# Altium footprint library EPC_2019Q3.pcblib: 22 footprints (part 1 of 2)
Each footprint in its own frame and in the unit in brackets; x right, y up, seen from the top. Pads: shape width x height; smd on the part's side, far side on the other; paste and mask are expansions set on the pad; w line width, h text height; cw(c..) or ccw(c..) is an arc to the next point about the centre after c.
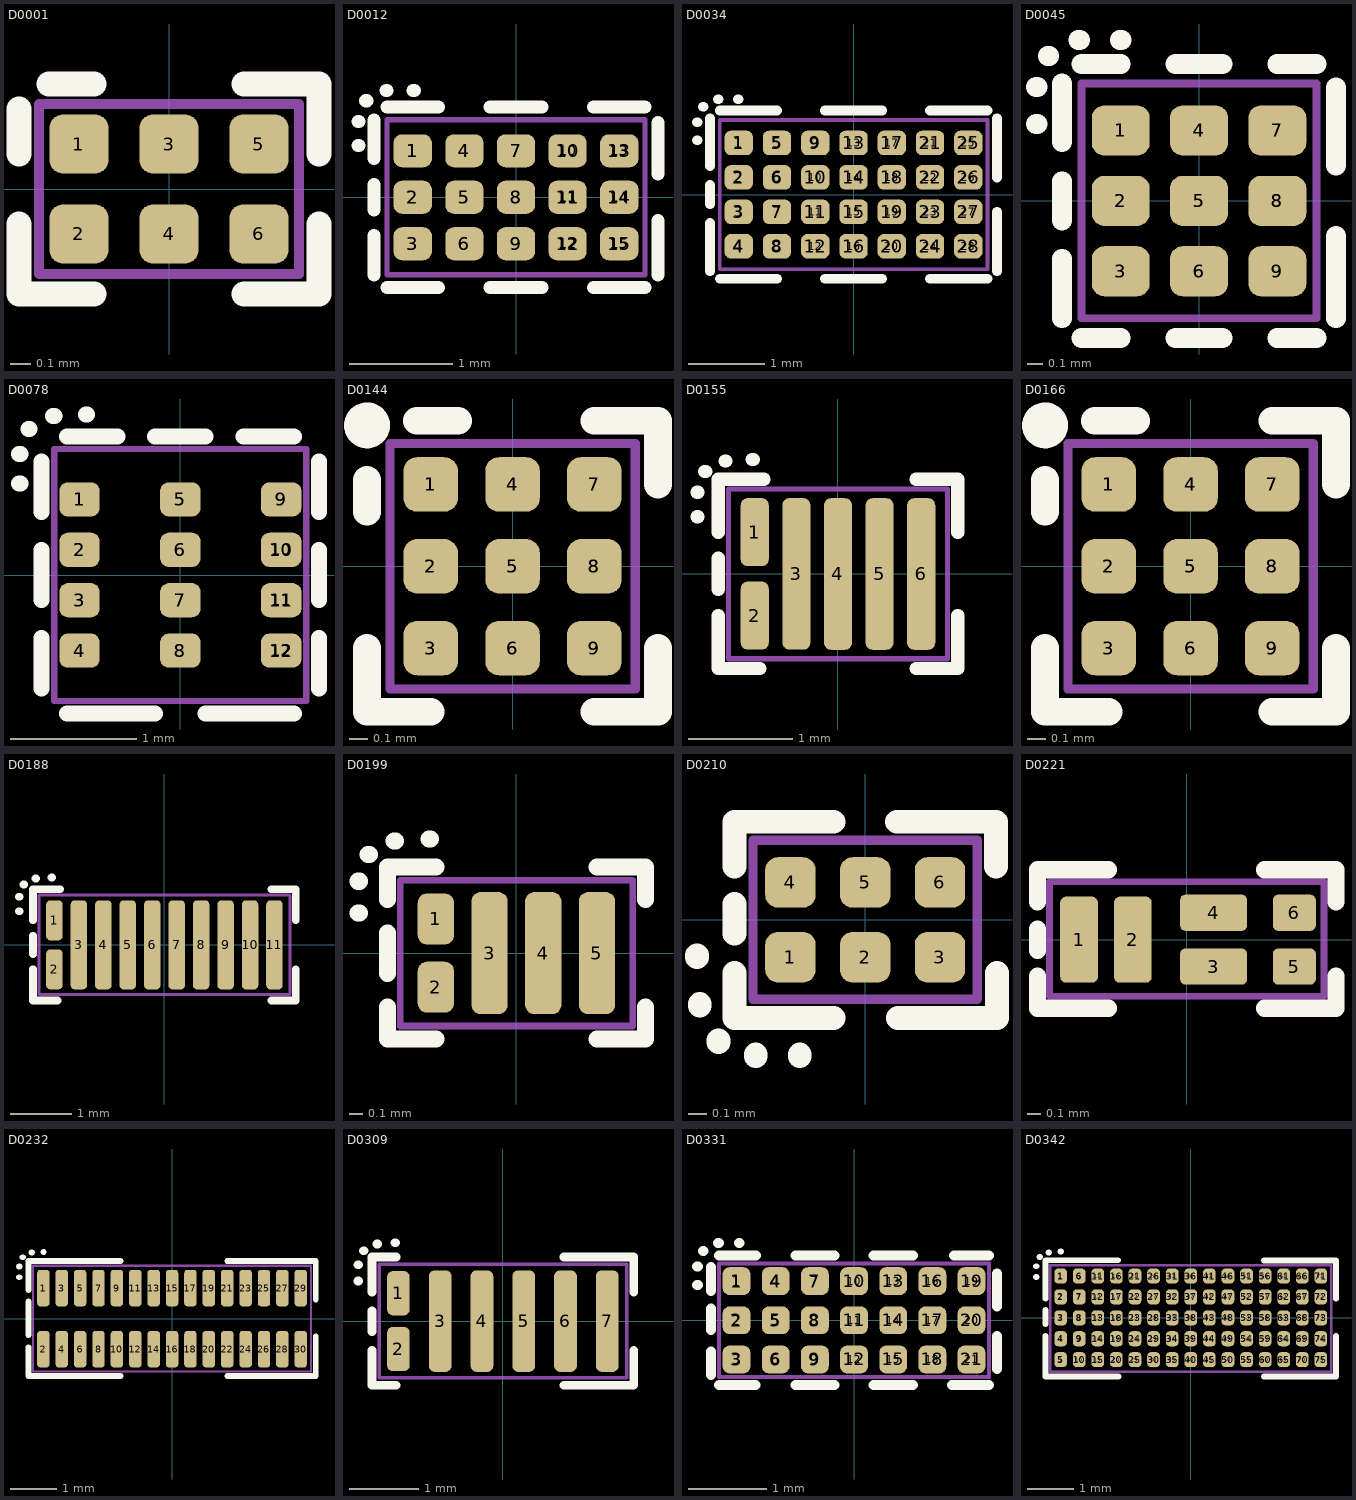
[diagram p0: the footprints below, top view; thin cyan lines are the x and y axes]

## D0001 [mm] "BGA 6 pin, 1.3mm by 0.85mm"
height 0.8
pads (12):
  rrect45% 0.295x0.295 smd paste-0.035 mask-0.135: 1(-0.45,0.225) 2(-0.45,-0.225) 3(0,0.225) 4(0,-0.225) 5(0.45,0.225) 6(0.45,-0.225)
  round 0.225 on Top Solder paste+0 mask+0: ""(-0.45,-0.225) ""(-0.45,0.225) ""(0,-0.225) ""(0,0.225) ""(0.45,-0.225) ""(0.45,0.225)
Top Overlay:
  lines w0.127: -0.75,-0.175 -0.75,-0.525 -0.375,-0.525 ; -0.75,0.175 -0.75,0.4 ; -0.6,0.525 -0.375,0.525 ; 0.375,-0.525 0.75,-0.525 0.75,-0.175 ; 0.375,0.525 0.75,0.525 0.75,0.175
Mechanical 13:
  lines w0.05: -0.65,-0.425 -0.65,0.425 0.65,0.425 0.65,-0.425 -0.65,-0.425
3D body: height 0.78, standoff 0.1, extent -0.65,-0.425 0.65,0.425
3D body: height 0.15, standoff -0.05, extent 0.353,0.127 0.547,0.323
3D body: height 0.15, standoff -0.05, extent 0.353,-0.323 0.547,-0.127
3D body: height 0.15, standoff -0.05, extent -0.097,-0.323 0.097,-0.127
3D body: height 0.15, standoff -0.05, extent -0.547,-0.323 -0.353,-0.127
3D body: height 0.15, standoff -0.05, extent -0.097,0.127 0.097,0.323
3D body: height 0.1, standoff 0.04, extent 0.35,-0.325 0.549,-0.125
3D body: height 0.1, standoff 0.04, extent -0.1,-0.325 0.099,-0.125
3D body: height 0.1, standoff 0.04, extent -0.55,-0.325 -0.351,-0.125
3D body: height 0.1, standoff 0.04, extent 0.35,0.125 0.549,0.325
3D body: height 0.1, standoff 0.04, extent -0.1,0.125 0.099,0.325
3D body: height 0.1, standoff 0.04, extent -0.55,0.125 -0.351,0.325
3D body: height 0.15, standoff -0.05, extent -0.547,0.127 -0.353,0.323
3D body: height 0.8, standoff 0.15, extent -0.599,0.075 -0.3,0.375

## D0012 [mm] "Gen 5 100 V"
height 0.8
pads (30):
  round 0.23 on Top Solder paste+0 mask+0: 1(-1,0.45) 2(-1,0) 3(-1,-0.45) 4(-0.5,0.45) 5(-0.5,0) 6(-0.5,-0.45) 7(0,0.45) 8(0,0) 9(0,-0.45) 10(0.5,0.45) 11(0.5,0) 12(0.5,-0.45) 13(1,0.45) 14(1,0) 15(1,-0.45)
  rrect50% 0.37x0.32 smd paste-0.035 mask-0.2: 1(-1,0.45) 2(-1,0) 3(-1,-0.45) 4(-0.5,0.45) 5(-0.5,0) 6(-0.5,-0.45) 7(0,0.45) 8(0,0) 9(0,-0.45) 10(0.5,0.45) 11(0.5,0) 12(0.5,-0.45) 13(1,0.45) 14(1,0) 15(1,-0.45)
Top Overlay:
  lines w0.127: -1.53,0.5 -1.52,0.5 ; -1.53,0.735 -1.52,0.735 ; -1.455,0.935 -1.445,0.935 ; -1.375,-0.75 -1.375,-0.37 ; -1.375,-0.125 -1.375,0.125 ; -1.375,0.375 -1.375,0.75 ; -1.26,1.035 -1.25,1.035 ; -1.25,-0.875 -0.75,-0.875 ; -1.25,0.875 -0.75,0.875 ; -0.995,1.035 -0.985,1.035 ; -0.25,-0.875 0.25,-0.875 ; -0.25,0.875 0.25,0.875 ; 0.75,-0.875 1.25,-0.875 ; 0.75,0.875 1.25,0.875 ; 1.375,-0.75 1.375,-0.225 ; 1.375,0.225 1.375,0.725
Mechanical 13:
  lines w0.05: -1.25,-0.75 1.25,-0.75 1.25,0.75 -1.25,0.75 -1.25,-0.75
3D body: height 0.88, standoff 0.2, extent -1.25,-0.75 1.25,0.75
3D body: height 0.95, standoff 0.15, extent -1.151,0.301 -0.852,0.601

## D0034 [mm] "Gen 5 100 V"
height 0.8
pads (56):
  round 0.23 on Top Solder paste+0 mask+0: 1(-1.5,0.675) 2(-1.5,0.225) 3(-1.5,-0.225) 4(-1.5,-0.675) 5(-1,0.675) 6(-1,0.225) 7(-1,-0.225) 8(-1,-0.675) 9(-0.5,0.675) 10(-0.5,0.225) 11(-0.5,-0.225) 12(-0.5,-0.675) 13(0,0.675) 14(0,0.225) 15(0,-0.225) 16(0,-0.675) 17(0.5,0.675) 18(0.5,0.225) 19(0.5,-0.225) 20(0.5,-0.675) 21(1,0.675) 22(1,0.225) 23(1,-0.225) 24(1,-0.675) 25(1.5,0.675) 26(1.5,0.225) 27(1.5,-0.225) 28(1.5,-0.675)
  rrect50% 0.37x0.32 smd paste-0.035 mask-0.2: 1(-1.5,0.675) 2(-1.5,0.225) 3(-1.5,-0.225) 4(-1.5,-0.675) 5(-1,0.675) 6(-1,0.225) 7(-1,-0.225) 8(-1,-0.675) 9(-0.5,0.675) 10(-0.5,0.225) 11(-0.5,-0.225) 12(-0.5,-0.675) 13(0,0.675) 14(0,0.225) 15(0,-0.225) 16(0,-0.675) 17(0.5,0.675) 18(0.5,0.225) 19(0.5,-0.225) 20(0.5,-0.675) 21(1,0.675) 22(1,0.225) 23(1,-0.225) 24(1,-0.675) 25(1.5,0.675) 26(1.5,0.225) 27(1.5,-0.225) 28(1.5,-0.675)
Top Overlay:
  lines w0.127: -2.046,0.712 -2.036,0.712 ; -2.046,0.947 -2.036,0.947 ; -1.971,1.147 -1.961,1.147 ; -1.875,-1 -1.875,-0.37 ; -1.875,-0.125 -1.875,0.125 ; -1.875,0.375 -1.875,1 ; -1.776,1.247 -1.766,1.247 ; -1.75,-1.1 -1,-1.1 ; -1.75,1.1 -1,1.1 ; -1.511,1.247 -1.501,1.247 ; -0.375,-1.1 0.375,-1.1 ; -0.375,1.1 0.375,1.1 ; 1,-1.1 1.75,-1.1 ; 1,1.1 1.75,1.1 ; 1.875,-1 1.875,-0.225 ; 1.875,0.225 1.875,1
Mechanical 13:
  lines w0.05: -1.75,-0.975 -1.75,0.975 1.75,0.975 1.75,-0.975 -1.75,-0.975
3D body: height 0.88, standoff 0.2, extent -1.753,-0.974 1.751,0.975
3D body: height 0.95, standoff 0.15, extent -1.655,0.53 -1.357,0.829

## D0045 [mm] "Gen 5 100 V"
height 0.8
pads (18):
  round 0.23 on Top Solder paste+0 mask+0: 1(-0.5,0.45) 2(-0.5,0) 3(-0.5,-0.45) 4(0,0.45) 5(0,0) 6(0,-0.45) 7(0.5,0.45) 8(0.5,0) 9(0.5,-0.45)
  rrect50% 0.37x0.32 smd paste-0.035 mask-0.2: 1(-0.5,0.45) 2(-0.5,0) 3(-0.5,-0.45) 4(0,0.45) 5(0,0) 6(0,-0.45) 7(0.5,0.45) 8(0.5,0) 9(0.5,-0.45)
Top Overlay:
  lines w0.127: -1.041,0.491 -1.031,0.491 ; -1.041,0.726 -1.031,0.726 ; -0.966,0.926 -0.956,0.926 ; -0.875,-0.75 -0.875,-0.37 ; -0.875,-0.125 -0.875,0.125 ; -0.875,0.375 -0.875,0.75 ; -0.771,1.026 -0.761,1.026 ; -0.75,-0.875 -0.5,-0.875 ; -0.75,0.875 -0.5,0.875 ; -0.506,1.026 -0.496,1.026 ; -0.15,-0.875 0.15,-0.875 ; -0.15,0.875 0.15,0.875 ; 0.5,-0.875 0.75,-0.875 ; 0.5,0.875 0.75,0.875 ; 0.875,-0.75 0.875,-0.225 ; 0.875,0.225 0.875,0.725
Mechanical 13:
  lines w0.05: -0.75,-0.75 -0.75,0.75 0.75,0.75 0.75,-0.75 -0.75,-0.75
3D body: height 0.88, standoff 0.2, extent -0.748,-0.75 0.749,0.75
3D body: height 0.95, standoff 0.15, extent -0.647,0.3 -0.348,0.6

## D0078 [mm] "350V Gen5"
height 0.6
pads (24):
  rrect50% 0.321x0.271 smd paste-0.023 mask+0: 1(-0.8,0.6) 2(-0.8,0.2) 3(-0.8,-0.2) 4(-0.8,-0.6) 5(0,0.6) 6(0,0.2) 7(0,-0.2) 8(0,-0.6) 9(0.8,0.6) 10(0.8,0.2) 11(0.8,-0.2) 12(0.8,-0.6)
  round 0.2 on Top Solder paste+0 mask+0: 1(-0.8,0.6) 2(-0.8,0.2) 3(-0.8,-0.2) 4(-0.8,-0.6) 5(0,0.6) 6(0,0.2) 7(0,-0.2) 8(0,-0.6) 9(0.8,0.6) 10(0.8,0.2) 11(0.8,-0.2) 12(0.8,-0.6)
Top Overlay:
  lines w0.127: -1.28,0.725 -1.27,0.725 ; -1.28,0.96 -1.27,0.96 ; -1.205,1.16 -1.195,1.16 ; -1.1,-0.9 -1.1,-0.5 ; -1.1,-0.2 -1.1,0.2 ; -1.1,0.5 -1.1,0.9 ; -1.01,1.26 -1,1.26 ; -0.9,-1.1 -0.2,-1.1 ; -0.9,1.1 -0.5,1.1 ; -0.75,1.275 -0.74,1.275 ; -0.2,1.1 0.2,1.1 ; 0.2,-1.1 0.9,-1.1 ; 0.5,1.1 0.9,1.1 ; 1.1,-0.9 1.1,-0.5 ; 1.1,-0.2 1.1,0.2 ; 1.1,0.5 1.1,0.9
Mechanical 13:
  lines w0.05: -1,-1 1,-1 1,1 -1,1 -1,-1
3D body: height 0.78, standoff 0.1, extent -1,-1.005 1,0.975
3D body: height 0.8, standoff 0.15, extent -0.95,0.45 -0.65,0.749

## D0144 [mm]
pads (18):
  rrect50% 0.3x0.3 smd paste-0.025 mask-0.148: 1(-0.45,0.45) 2(-0.45,0) 3(-0.45,-0.45) 4(0,0.45) 5(0,0) 6(0,-0.45) 7(0.45,0.45) 8(0.45,0) 9(0.45,-0.45)
  round 0.2 on Top Solder paste+0 mask+0: 1(-0.45,0.45) 2(-0.45,0) 3(-0.45,-0.45) 4(0,0.45) 5(0,0) 6(0,-0.45) 7(0.45,0.45) 8(0.45,0) 9(0.45,-0.45)
Top Overlay:
  circle w0.152: c-0.8,0.775 r0.05
  lines w0.152: -0.8,-0.45 -0.8,-0.8 -0.45,-0.8 ; -0.8,0.3 -0.8,0.475 ; -0.525,0.8 -0.3,0.8 ; 0.45,-0.8 0.8,-0.8 0.8,-0.45 ; 0.45,0.8 0.8,0.8 0.8,0.45
Mechanical 13:
  lines w0.05: -0.675,-0.675 -0.675,0.675 0.675,0.675 0.675,-0.675 -0.675,-0.675
3D body: height 0.81, standoff 0.17, extent -0.675,-0.675 0.675,0.675
3D body: height 0.85, standoff 0.15, extent -0.599,0.3 -0.3,0.6

## D0155 [mm]
height 0.8
pads (12):
  rrect50% 0.27x0.655 smd paste-0.048 mask-0.275: 1(-0.8,0.401) 2(-0.8,-0.401)
  rrect50% 0.27x1.457 smd paste-0.048 mask-0.275: 3(-0.4,0) 4(0,-0.001) 5(0.4,-0.001) 6(0.8,-0.001)
  oval 0.18x0.56 on Top Solder: ""(-0.8,-0.401) ""(-0.8,0.401)
  oval 0.18x1.362 on Top Solder: ""(-0.4,0) ""(0,0) ""(0.4,0) ""(0.8,0)
Top Overlay:
  lines w0.127: -1.355,0.55 -1.345,0.55 ; -1.355,0.785 -1.345,0.785 ; -1.28,0.985 -1.27,0.985 ; -1.15,-0.4 -1.15,-0.91 -0.75,-0.91 ; -1.15,-0.15 -1.15,0.15 ; -1.15,0.4 -1.15,0.91 -0.71,0.91 ; -1.085,1.085 -1.075,1.085 ; -0.825,1.1 -0.815,1.1 ; 0.751,-0.91 1.151,-0.91 1.151,-0.4 ; 0.751,0.91 1.151,0.91 1.151,0.4
Mechanical 13:
  lines w0.05: -1.052,-0.816 1.054,-0.816 1.054,0.816 -1.052,0.816 -1.052,-0.816
3D body: height 0.85, standoff 0.15, extent -0.949,0.251 -0.65,0.551
3D body: height 0.81, standoff 0.1, extent -1.052,-0.816 1.05,0.816

## D0166 [mm]
height 0.8
pads (18):
  rrect50% 0.3x0.3 smd paste-0.038 mask-0.148: 1(-0.45,0.45) 2(-0.45,0) 3(-0.45,-0.45) 4(0,0.45) 5(0,0) 6(0,-0.45) 7(0.45,0.45) 8(0.45,0) 9(0.45,-0.45)
  rrect33% 0.205x0.205 on Top Solder paste+0 mask+0: 1(-0.45,0.45) 2(-0.45,0) 3(-0.45,-0.45) 4(0,0.45) 5(0,0) 6(0,-0.45) 7(0.45,0.45) 8(0.45,0) 9(0.45,-0.45)
Top Overlay:
  circle w0.152: c-0.8,0.775 r0.05
  lines w0.152: -0.8,-0.45 -0.8,-0.8 -0.45,-0.8 ; -0.8,0.3 -0.8,0.475 ; -0.525,0.8 -0.3,0.8 ; 0.45,-0.8 0.8,-0.8 0.8,-0.45 ; 0.45,0.8 0.8,0.8 0.8,0.45
Mechanical 13:
  lines w0.05: -0.675,-0.675 -0.675,0.675 0.675,0.675 0.675,-0.675 -0.675,-0.675
3D body: height 0.23, standoff -0.05, extent -0.579,0.315 -0.312,0.586
3D body: height 0.16, standoff 0.09, extent -0.587,0.313 -0.312,0.588
3D body: height 0.23, standoff -0.05, extent -0.129,0.315 0.138,0.586
3D body: height 0.16, standoff 0.09, extent -0.137,0.313 0.138,0.588
3D body: height 0.23, standoff -0.05, extent 0.321,0.315 0.588,0.586
3D body: height 0.16, standoff 0.09, extent 0.313,0.313 0.588,0.588
3D body: height 0.23, standoff -0.05, extent 0.321,-0.585 0.588,-0.314
3D body: height 0.16, standoff 0.09, extent 0.313,-0.587 0.588,-0.312
3D body: height 0.23, standoff -0.05, extent -0.129,-0.585 0.138,-0.314
3D body: height 0.16, standoff 0.09, extent -0.137,-0.587 0.138,-0.312
3D body: height 0.23, standoff -0.05, extent -0.579,-0.585 -0.312,-0.314
3D body: height 0.16, standoff 0.09, extent -0.587,-0.587 -0.312,-0.312
3D body: height 0.23, standoff -0.05, extent 0.321,-0.135 0.588,0.136
3D body: height 0.16, standoff 0.09, extent 0.313,-0.137 0.588,0.138
3D body: height 0.23, standoff -0.05, extent -0.579,-0.135 -0.312,0.136
3D body: height 0.16, standoff 0.09, extent -0.587,-0.137 -0.312,0.138
3D body: height 0.16, standoff 0.09, extent -0.137,-0.137 0.138,0.138
3D body: height 0.23, standoff -0.05, extent -0.129,-0.135 0.138,0.136
3D body: height 0.8, standoff 0.12, extent -0.675,-0.675 0.675,0.675
3D body: height 0.81, standoff 0.8, extent -0.599,0.3 -0.3,0.6

## D0188 [mm]
height 0.8
pads (22):
  rrect50% 0.27x0.655 smd paste-0.048 mask-0.275: 1(-1.8,0.401) 2(-1.8,-0.401)
  rrect50% 0.27x1.457 smd paste-0.048 mask-0.275: 3(-1.4,0) 4(-1,-0.001) 5(-0.6,-0.001) 6(-0.2,-0.001) 7(0.2,-0.001) 8(0.6,-0.001) 9(1,-0.001) 10(1.4,-0.001) 11(1.8,-0.001)
  oval 0.18x0.56 on Top Solder: ""(-1.8,-0.4) ""(-1.8,0.4)
  oval 0.18x1.362 on Top Solder: ""(-1.4,0) ""(-1,0) ""(-0.6,0) ""(-0.2,0) ""(0.2,0) ""(0.6,0) ""(1,0) ""(1.4,0) ""(1.8,0)
Top Overlay:
  lines w0.127: -2.38,0.55 -2.37,0.55 ; -2.38,0.785 -2.37,0.785 ; -2.305,0.985 -2.295,0.985 ; -2.15,-0.4 -2.15,-0.91 -1.75,-0.91 ; -2.15,-0.15 -2.15,0.15 ; -2.15,0.4 -2.15,0.91 -1.71,0.91 ; -2.11,1.085 -2.1,1.085 ; -1.85,1.1 -1.84,1.1 ; 1.75,-0.91 2.15,-0.91 2.15,-0.4 ; 1.75,0.91 2.15,0.91 2.15,0.4
Mechanical 13:
  lines w0.05: -2.052,-0.816 2.053,-0.816 2.053,0.816 -2.052,0.816 -2.052,-0.816
3D body: height 0.81, standoff 0.1, extent -2.052,-0.816 2.053,0.816
3D body: height 0.85, standoff 0.15, extent -1.949,0.251 -1.65,0.551

## D0199 [mm]
height 0.8
pads (10):
  rrect50% 0.27x0.38 smd paste-0.048 mask-0.275: 1(-0.6,0.254) 2(-0.6,-0.254)
  rrect50% 0.27x0.909 smd paste-0.048 mask-0.275: 3(-0.2,0) 4(0.2,0) 5(0.6,0)
  oval 0.18x0.31 on Top Solder: ""(-0.6,-0.254) ""(-0.6,0.254)
  oval 0.18x0.817 on Top Solder: ""(-0.2,0) ""(0.2,0) ""(0.6,0)
Top Overlay:
  lines w0.127: -1.18,0.3 -1.17,0.3 ; -1.18,0.535 -1.17,0.535 ; -1.105,0.735 -1.095,0.735 ; -0.96,-0.4 -0.96,-0.64 -0.6,-0.64 ; -0.96,-0.15 -0.96,0.15 ; -0.96,0.4 -0.96,0.64 -0.6,0.64 ; -0.91,0.835 -0.9,0.835 ; -0.65,0.85 -0.64,0.85 ; 0.6,-0.64 0.96,-0.64 0.96,-0.4 ; 0.6,0.64 0.96,0.64 0.96,0.4
Mechanical 13:
  lines w0.05: -0.866,-0.543 0.866,-0.543 0.866,0.544 -0.866,0.544 -0.866,-0.543
3D body: height 0.81, standoff 0.1, extent -0.87,-0.55 0.87,0.55
3D body: height 0.85, standoff 0.15, extent -0.749,0.104 -0.45,0.404

## D0210 [mm] "eGaN FET"
height 0.8
pads (12):
  rrect50% 0.27x0.27 smd paste-0.01 mask-0.135: 1(-0.4,-0.2) 2(0,-0.2) 3(0.4,-0.2) 4(-0.4,0.2) 5(0,0.2) 6(0.4,0.2)
  round 0.2 on Top Solder paste+0 mask+0: ""(-0.4,-0.2) ""(-0.4,0.2) ""(0,-0.2) ""(0,0.2) ""(0.4,-0.2) ""(0.4,0.2)
Top Overlay:
  lines w0.127: -0.9,-0.2 -0.9,-0.19 ; -0.885,-0.46 -0.885,-0.45 ; -0.785,-0.655 -0.785,-0.645 ; -0.7,-0.285 -0.7,-0.525 -0.17,-0.525 ; -0.7,-0.075 -0.7,0.085 ; -0.7,0.285 -0.7,0.525 -0.17,0.525 ; -0.585,-0.73 -0.585,-0.72 ; -0.35,-0.73 -0.35,-0.72 ; 0.17,0.525 0.7,0.525 0.7,0.285 ; 0.175,-0.525 0.705,-0.525 0.705,-0.285
Mechanical 13:
  lines w0.05: -0.6,-0.425 0.6,-0.425 0.6,0.425 -0.6,0.425 -0.6,-0.425
3D body: height 0.81, standoff 0.19, extent -0.6,-0.425 0.6,0.425
3D body: height 0.85, standoff 0.15, extent -0.549,-0.35 -0.25,-0.05

## D0221 [mm] "eGaN FET"
height 0.8
pads (12):
  rrect30% 0.28x0.64 smd paste-0.024 mask-0.147: 1(-0.8,0) 2(-0.4,0)
  rrect30% 0.498x0.27 smd paste-0.024 mask-0.149: 3(0.2,-0.2) 4(0.2,0.2)
  rrect30% 0.32x0.27 smd paste-0.024 mask-0.16: 5(0.8,-0.2) 6(0.8,0.2)
  oval 0.19x0.57 on Top Solder paste+0 mask+0: ""(-0.8,0) ""(-0.4,0)
  oval 0.44x0.19 on Top Solder paste+0 mask+0: ""(0.2,-0.2) ""(0.2,0.2)
  round 0.19 on Top Solder paste+0 mask+0: ""(0.8,-0.2) ""(0.8,0.2)
Top Overlay:
  lines w0.127: -1.11,-0.27 -1.11,-0.51 -0.58,-0.51 ; -1.11,-0.08 -1.11,0.08 ; -1.11,0.28 -1.11,0.52 -0.58,0.52 ; 0.58,-0.51 1.11,-0.51 1.11,-0.27 ; 0.58,0.52 1.11,0.52 1.11,0.28
Mechanical 13:
  lines w0.05: -1.02,-0.42 1.02,-0.42 1.02,0.43 -1.02,0.43 -1.02,-0.42
3D body: height 0.81, standoff 0.1, extent -1.03,-0.42 1.02,0.43
3D body: height 0.85, standoff 0.15, extent -0.949,-0.15 -0.65,0.15

## D0232 [mm] "Gen 4 XL Die"
height 0.8
pads (60):
  rrect50% 0.27x0.794 smd paste-0.037 mask-0.274: 1(-2.8,0.665) 2(-2.8,-0.665) 3(-2.4,0.665) 4(-2.4,-0.665) 5(-2,0.665) 7(-1.6,0.665) 8(-1.6,-0.665) 10(-1.2,-0.665) 11(-0.8,0.665) 12(-0.8,-0.665) 13(-0.4,0.665) 14(-0.4,-0.665) 15(0,0.665) 16(0,-0.665) 17(0.4,0.665) 18(0.4,-0.665) 19(0.8,0.665) 20(0.8,-0.665) 21(1.2,0.665) 22(1.2,-0.665) 23(1.6,0.665) 24(1.6,-0.665) 25(2,0.665) 26(2,-0.665) 27(2.4,0.665) 28(2.4,-0.665) 29(2.8,0.665) 30(2.8,-0.665)
  rrect50% 0.27x0.794 smd paste-0.037 mask-0.24: 6(-2,-0.665)
  rrect50% 0.27x0.795 smd paste-0.037 mask-0.274: 9(-1.2,0.665)
  oval 0.18x0.7 on Top Solder paste-0.18 mask+0: ""(-2.8,0.665) ""(-2.8,-0.665) ""(-2.4,0.665) ""(-2.4,-0.665) ""(-2,0.665) ""(-2,-0.665) ""(-1.6,0.665) ""(-1.6,-0.665) ""(-1.2,0.665) ""(-1.2,-0.665) ""(-0.8,0.665) ""(-0.8,-0.665) ""(-0.4,0.665) ""(-0.4,-0.665) ""(0,0.665) ""(0,-0.665) ""(0.4,0.665) ""(0.4,-0.665) ""(0.8,0.665) ""(0.8,-0.665) ""(1.2,0.665) ""(1.2,-0.665) ""(1.6,0.665) ""(1.6,-0.665) ""(2,0.665) ""(2,-0.665) ""(2.4,0.665) ""(2.4,-0.665) ""(2.8,0.665) ""(2.8,-0.665)
Top Overlay:
  lines w0.127: -3.33,0.9 -3.32,0.9 ; -3.33,1.135 -3.32,1.135 ; -3.255,1.335 -3.245,1.335 ; -3.125,-0.625 -3.125,-1.25 -1.125,-1.25 ; -3.125,-0.361 -3.125,0.375 ; -3.125,0.625 -3.125,1.25 -1.125,1.25 ; -3.06,1.435 -3.05,1.435 ; -2.8,1.45 -2.79,1.45 ; 1.2,-1.25 3.125,-1.25 3.125,-0.386 ; 1.2,1.25 3.125,1.25 3.125,0.414
Mechanical 13:
  lines w0.05: -3.025,-1.15 -3.025,1.15 3.025,1.15 3.025,-1.15 -3.025,-1.15
3D body: height 0.81, standoff 0.1, extent -3.025,-1.155 3.025,1.155
3D body: height 0.85, standoff 0.15, extent -2.949,0.515 -2.65,0.815

## D0309 [mm]
height 0.8
pads (14):
  rrect50% 0.325x0.635 smd paste-0.048 mask-0.325: 1(-1.5,0.401) 2(-1.5,-0.401)
  rrect50% 0.325x1.457 smd paste-0.048 mask-0.325: 3(-0.9,0) 4(-0.3,0) 5(0.3,0) 6(0.9,0) 7(1.5,0)
  oval 0.23x0.56 on Top Solder: ""(-1.5,-0.401) ""(-1.5,0.401)
  oval 0.23x1.362 on Top Solder: ""(-0.9,0) ""(-0.3,0) ""(0.3,0) ""(0.9,0) ""(1.5,0)
Top Overlay:
  lines w0.127: -2.08,0.575 -2.07,0.575 ; -2.08,0.81 -2.07,0.81 ; -2.005,1.01 -1.995,1.01 ; -1.88,-0.42 -1.88,-0.92 -1.53,-0.92 ; -1.88,-0.15 -1.88,0.15 ; -1.88,0.42 -1.88,0.92 -1.53,0.92 ; -1.81,1.11 -1.8,1.11 ; -1.55,1.125 -1.54,1.125 ; 0.88,-0.92 1.88,-0.92 1.88,-0.42 ; 0.88,0.92 1.88,0.92 1.88,0.42
Mechanical 13:
  lines w0.05: -1.777,-0.816 1.777,-0.816 1.777,0.816 -1.777,0.816 -1.777,-0.816
3D body: height 0.81, standoff 0.1, extent -1.775,-0.825 1.775,0.825
3D body: height 0.85, standoff 0.15, extent -1.649,0.251 -1.35,0.551

## D0331 [mm] "Gen 5 100 V HB"
height 0.8
pads (42):
  round 0.23 on Top Solder paste+0 mask+0: 1(-1.5,0.5) 2(-1.5,0) 3(-1.5,-0.5) 4(-1,0.5) 5(-1,0) 6(-1,-0.5) 7(-0.5,0.5) 8(-0.5,0) 9(-0.5,-0.5) 10(0,0.5) 11(0,0) 12(0,-0.5) 13(0.5,0.5) 14(0.5,0) 15(0.5,-0.5) 16(1,0.5) 17(1,0) 18(1,-0.5) 19(1.5,0.5) 20(1.5,0) 21(1.5,-0.5)
  rrect50% 0.355x0.355 smd paste-0.04 mask-0.17: 1(-1.5,0.5) 2(-1.5,0) 3(-1.5,-0.5) 4(-1,0.5) 5(-1,0) 6(-1,-0.5) 7(-0.5,0.5) 8(-0.5,0) 9(-0.5,-0.5) 10(0,0.5) 11(0,0) 12(0,-0.5) 13(0.5,0.5) 14(0.5,0) 15(0.5,-0.5) 16(1,0.5) 17(1,0) 18(1,-0.5) 19(1.5,0.5) 20(1.5,0) 21(1.5,-0.5)
Top Overlay:
  lines w0.127: -2.005,0.45 -1.995,0.45 ; -2.005,0.685 -1.995,0.685 ; -1.93,0.885 -1.92,0.885 ; -1.825,-0.7 -1.825,-0.4 ; -1.825,-0.125 -1.825,0.15 ; -1.825,0.375 -1.825,0.68 ; -1.735,0.985 -1.725,0.985 ; -1.725,-0.825 -1.26,-0.825 ; -1.725,0.825 -1.25,0.825 ; -1.47,0.985 -1.46,0.985 ; -0.75,-0.825 -0.25,-0.825 ; -0.75,0.825 -0.25,0.825 ; 0.25,-0.825 0.75,-0.825 ; 0.25,0.825 0.75,0.825 ; 1.25,-0.825 1.725,-0.825 ; 1.275,0.825 1.725,0.825 ; 1.825,-0.625 1.825,-0.2 ; 1.825,0.175 1.825,0.6
Mechanical 13:
  lines w0.05: -1.725,-0.725 1.725,-0.725 1.725,0.725 -1.725,0.725 -1.725,-0.725
3D body: height 0.81, standoff 0.1, extent -1.725,-0.725 1.725,0.725
3D body: height 0.85, standoff 0.15, extent -1.649,0.35 -1.35,0.65

## D0342 [mm]
height 0.8
pads (150):
  round 0.2 on Top Solder paste+0 mask+0: 1(-2.8,0.9) 2(-2.8,0.45) 3(-2.8,0) 4(-2.8,-0.45) 5(-2.8,-0.9) 6(-2.4,0.9) 7(-2.4,0.45) 8(-2.4,0) 9(-2.4,-0.45) 10(-2.4,-0.9) 11(-2,0.9) 12(-2,0.45) 13(-2,0) 14(-2,-0.45) 15(-2,-0.9) 16(-1.6,0.9) 17(-1.6,0.45) 18(-1.6,0) 19(-1.6,-0.45) 20(-1.6,-0.9) 21(-1.2,0.9) 22(-1.2,0.45) 23(-1.2,0) 24(-1.2,-0.45) 25(-1.2,-0.9) 26(-0.8,0.9) 27(-0.8,0.45) 28(-0.8,0) 29(-0.8,-0.45) 30(-0.8,-0.9) 31(-0.4,0.9) 32(-0.4,0.45) 33(-0.4,0) 34(-0.4,-0.45) 35(-0.4,-0.9) 36(0,0.9) 37(0,0.45) 38(0,0) 39(0,-0.45) 40(0,-0.9) 41(0.4,0.9) 42(0.4,0.45) 43(0.4,0) 44(0.4,-0.45) 45(0.4,-0.9) 46(0.8,0.9) 47(0.8,0.45) 48(0.8,0) 49(0.8,-0.45) 50(0.8,-0.9) 51(1.2,0.9) 52(1.2,0.45) 53(1.2,0) 54(1.2,-0.45) 55(1.2,-0.9) 56(1.6,0.9) 57(1.6,0.45) 58(1.6,0) 59(1.6,-0.45) 60(1.6,-0.9) 61(2,0.9) 62(2,0.45) 63(2,0) 64(2,-0.45) 65(2,-0.9) 66(2.4,0.9) 67(2.4,0.45) 68(2.4,0) 69(2.4,-0.45) 70(2.4,-0.9) 71(2.8,0.9) 72(2.8,0.45) 73(2.8,0) 74(2.8,-0.45) 75(2.8,-0.9)
  rrect60% 0.273x0.323 smd paste-0.024 mask-0.14: 1(-2.8,0.9) 2(-2.8,0.45) 3(-2.8,0) 4(-2.8,-0.45) 5(-2.8,-0.9) 6(-2.4,0.9) 7(-2.4,0.45) 8(-2.4,0) 9(-2.4,-0.45) 10(-2.4,-0.9) 11(-2,0.9) 12(-2,0.45) 13(-2,0) 14(-2,-0.45) 15(-2,-0.9) 16(-1.6,0.9) 17(-1.6,0.45) 18(-1.6,0) 19(-1.6,-0.45) 20(-1.6,-0.9) 21(-1.2,0.9) 22(-1.2,0.45) 23(-1.2,0) 24(-1.2,-0.45) 25(-1.2,-0.9) 26(-0.8,0.9) 27(-0.8,0.45) 28(-0.8,0) 29(-0.8,-0.45) 30(-0.8,-0.9) 31(-0.4,0.9) 32(-0.4,0.45) 33(-0.4,0) 34(-0.4,-0.45) 35(-0.4,-0.9) 36(0,0.9) 37(0,0.45) 38(0,0) 39(0,-0.45) 40(0,-0.9) 41(0.4,0.9) 42(0.4,0.45) 43(0.4,0) 44(0.4,-0.45) 45(0.4,-0.9) 46(0.8,0.9) 47(0.8,0.45) 48(0.8,0) 49(0.8,-0.45) 50(0.8,-0.9) 51(1.2,0.9) 52(1.2,0.45) 53(1.2,0) 54(1.2,-0.45) 55(1.2,-0.9) 56(1.6,0.9) 57(1.6,0.45) 58(1.6,0) 59(1.6,-0.45) 60(1.6,-0.9) 61(2,0.9) 62(2,0.45) 63(2,0) 64(2,-0.45) 65(2,-0.9) 66(2.4,0.9) 67(2.4,0.45) 68(2.4,0) 69(2.4,-0.45) 70(2.4,-0.9) 71(2.8,0.9) 72(2.8,0.45) 73(2.8,0) 74(2.8,-0.45) 75(2.8,-0.9)
Top Overlay:
  lines w0.127: -3.33,0.875 -3.32,0.875 ; -3.33,1.11 -3.32,1.11 ; -3.255,1.31 -3.245,1.31 ; -3.125,-0.39 -3.125,-1.26 -1.555,-1.26 ; -3.125,-0.13 -3.125,0.17 ; -3.125,0.41 -3.125,1.23 ; -3.115,1.24 -1.565,1.24 ; -3.06,1.41 -3.05,1.41 ; -2.8,1.425 -2.79,1.425 ; 1.575,-1.26 3.125,-1.26 3.125,-0.39 ; 1.575,1.23 3.125,1.23 3.125,0.41
Mechanical 13:
  lines w0.05: 3.015,-1.16 -3.025,-1.16 -3.025,1.13 3.025,1.13 3.025,-1.16
3D body: height 0.81, standoff 0.1, extent -3.025,-1.16 3.015,1.13
3D body: height 0.85, standoff 0.15, extent -2.949,0.75 -2.65,1.05